# EAGLE library part ISL83077 (library NASA_LIB)
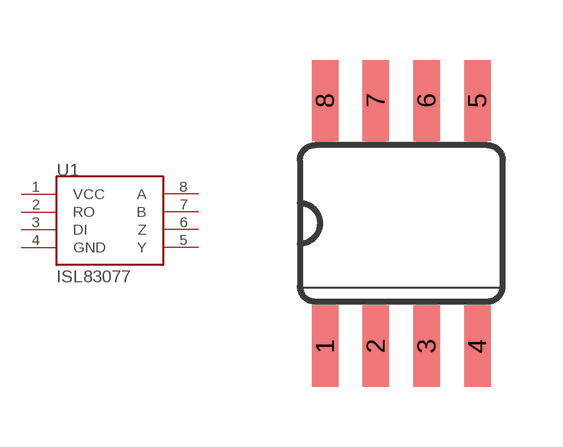
[diagram p37: symbol with the pads of SO08; footprint SO08]

Designator prefix U1

## ISL83077  [SO08]
1  VCC
2  RO
3  DI
4  GND
5  Y
6  Z
7  B
8  A

## Footprint SO08 (pad centres in mm)
smd 0.66 x 2.032: 1 -1.905,-3.073; 2 -0.635,-3.073; 3 0.635,-3.073; 4 1.905,-3.073; 5 1.905,3.073; 6 0.635,3.073; 7 -0.635,3.073; 8 -1.905,3.073